# EAGLE library part MCP6402 (library omcOpAmp)
MCP6402 - 1 MHz, 45 μA Dual Op Amp - Microchip Low Quiescent Current: 45 μA (typical) Gain Bandwidth Product: 1 MHz (typical) Rail-to-Rail Input and Output Supply Voltage Range: 1.8V to 6.0V Unity Gain Stable Extended Temperature Range: -40°C to +125°C No Phase Reversal Datasheet: Microchip <http://ww1.microchip.com/downloads/en/devicedoc/22229d.pdf> Reichelt <https://cdn-reichelt.de/documents/datenblatt/A200/MCP6401-2-4.pdf>
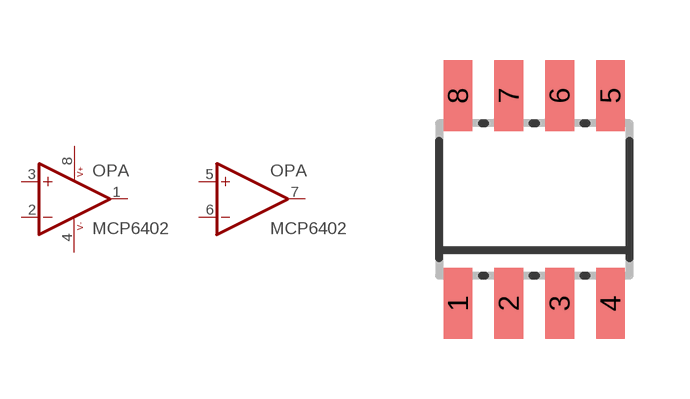
[diagram p1: symbol with the pads of SOIC08; footprint SOIC08]

Designator prefix OPA; gates G$1=OPV G$2=PWR G$3=OPV

## MCP6402-E/SN (DIST#REICHELT#: MCP 6402-E/SN; VALUE: MCP6402-E)  [SOIC08]
1  G$1:OUT  out
2  G$1:-IN  in
3  G$1:+IN  in
4  G$2:V-  pwr
5  G$3:+IN  in
6  G$3:-IN  in
7  G$3:OUT  out
8  G$2:V+  pwr

## Footprint SOIC08 (pad centres in mm)
SOIC08 SMD 5mm×6.2mm Wikipedia <https://en.wikipedia.org/wiki/Small_Outline_Integrated_Circuit>
smd 0.72 x 1.78: 1 -1.905,-2.6; 2 -0.635,-2.6; 3 0.635,-2.6; 4 1.905,-2.6; 5 1.905,2.6; 6 0.635,2.6; 7 -0.635,2.6; 8 -1.905,2.6